# Altium footprint library auxiliary_library-bkp.PcbLib: 2 footprints
Each footprint in its own frame and in the unit in brackets; x right, y up, seen from the top. Pads: shape width x height; smd on the part's side, far side on the other; paste and mask are expansions set on the pad; w line width, h text height; cw(c..) or ccw(c..) is an arc to the next point about the centre after c.
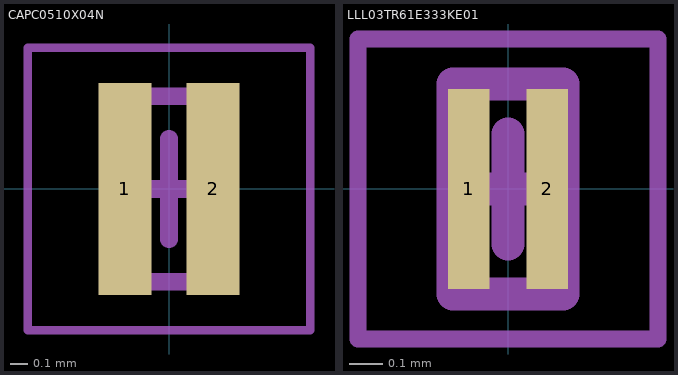
[diagram p0: the footprints below, top view; thin cyan lines are the x and y axes]

## CAPC0510X04N [mm] "Chip Capacitor, 2-Leads, Body 0.52x1.00mm, IPC Medium Density"
height 0.35
pads (2):
  rect 0.3x1.2 smd: 1(-0.25,0) 2(0.25,0)
Mechanical 13:
  lines w0.1: -0.285,-0.525 -0.285,0.525 0.285,0.525 0.285,-0.525 -0.285,-0.525
Mechanical 15:
  lines w0.05: -0.8,-0.8 -0.8,0.8 0.8,0.8 0.8,-0.8 -0.8,-0.8
  lines w0.1: -0.285,0 0.285,0 ; 0,-0.285 0,0.285
3D body "CAPC0510X04N.step": height 0.35, standoff 0, extent -0.285,-0.525 0.285,0.525

## LLL03TR61E333KE01 [mm] "Chip Capacitor, 2-Leads, Body 0.30x0.60mm, IPC High Density"
height 0.2
pads (2):
  rect 0.125x0.6 smd: 1(-0.118,0) 2(0.118,0)
Mechanical 13:
  lines w0.1: -0.165,-0.315 -0.165,0.315 0.165,0.315 0.165,-0.315 -0.165,-0.315
Mechanical 15:
  lines w0.05: -0.45,-0.45 -0.45,0.45 0.45,0.45 0.45,-0.45 -0.45,-0.45
  lines w0.1: -0.165,0 0.165,0 ; 0,-0.165 0,0.165
3D body "LLL03TR61E333KE01.step": height 0.2, standoff 0, extent -0.165,-0.315 0.165,0.315